# Altium schematic symbol library 1051620001.SchLib: 1 symbol
Pins are listed as number, name and electrical type; pins without a type are passive.

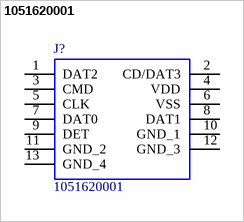
[diagram p0: symbol 1051620001]

## 1051620001
designator J?
1.45H MICRO SD HEADER WITH D/C P; Manufacturer_Name: Molex; Manufacturer_Part_Number: 1051620001; Mouser Part Number: *; Mouser Price/Stock: *; RS Part Number: *; RS Price/Stock: *; Datasheet Link: https://www.molex.com/pdm_docs/sd/1051620001_sd.pdf
footprint 1051620001
pins: 1 DAT2, 2 CD/DAT3, 3 CMD, 4 VDD, 5 CLK, 6 VSS, 7 DAT0, 8 DAT1, 9 DET, 10 GND_1, 11 GND_2, 12 GND_3, 13 GND_4